# Altium schematic symbol library Resistors$.SchLib: 672 symbols (part 4 of 5)
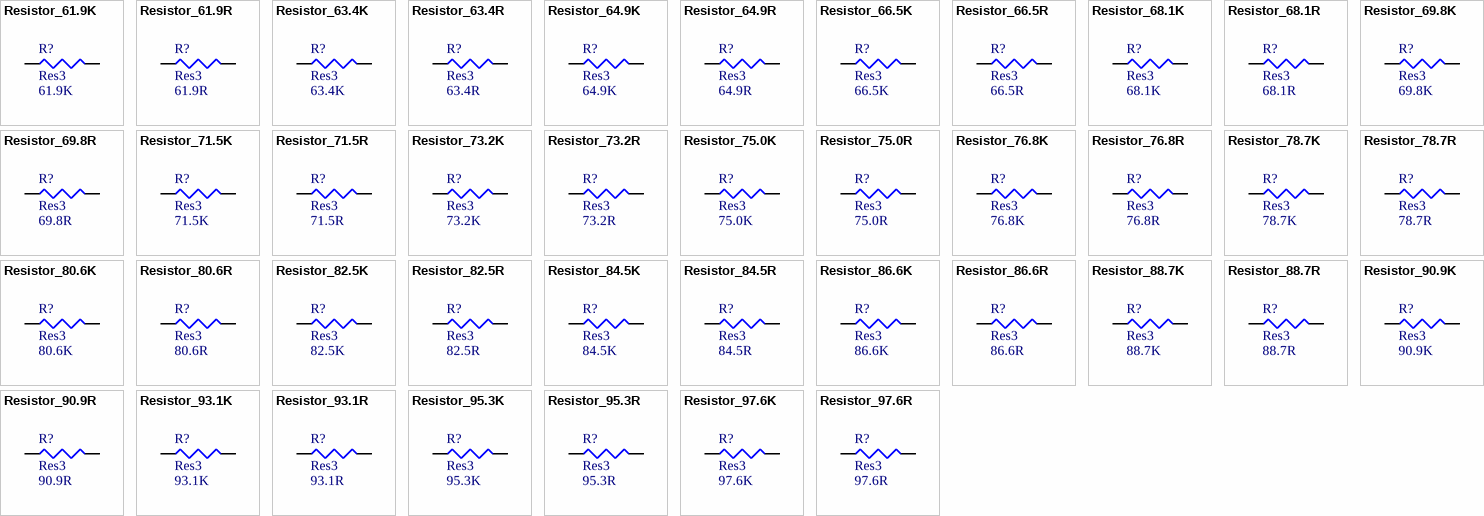
[diagram p19: symbols Resistor_61.9K to Resistor_97.6R]

## Resistor_69.8R
designator R?, comment Res3  value 69.8R
RES SMD 69.8R OHM 1% 1/8W 0805; MPN: CRCW080569R8FKEA; Name: Resistor_69.8R; PN: 541-69.8CCT-ND; URL: http://www.digikey.ca/product-detail/en/CRCW080569R8FKEA/541-69.8CCT-ND
footprint RESC2112X05M (Chip Resistor, 2-Leads, Body 2.05x1.25mm, IPC Low Density)
pins: 1, 2

## Resistor_71.5K
designator R?, comment Res3  value 71.5K
RES SMD 71.5K OHM 1% 1/8W 0805; MPN: CRCW080571K5FKEA; Name: Resistor_71.5K; PN: 541-7150KCCT-ND; URL: http://www.digikey.ca/product-detail/en/CRCW080571K5FKEA/541-7150KCCT-ND
footprint RESC2112X05M (Chip Resistor, 2-Leads, Body 2.05x1.25mm, IPC Low Density)
pins: 1, 2

## Resistor_71.5R
designator R?, comment Res3  value 71.5R
RES SMD 71.5R OHM 1% 1/8W 0805; MPN: CRCW080571R5FKEA; Name: Resistor_71.5R; PN: 541-71.5CCT-ND; URL: http://www.digikey.ca/product-detail/en/CRCW080571R5FKEA/541-71.5CCT-ND
footprint RESC2112X05M (Chip Resistor, 2-Leads, Body 2.05x1.25mm, IPC Low Density)
pins: 1, 2

## Resistor_73.2K
designator R?, comment Res3  value 73.2K
RES SMD 73.2K OHM 1% 1/8W 0805; MPN: CRCW080573K2FKEA; Name: Resistor_73.2K; PN: 541-7320KCCT-ND; URL: http://www.digikey.ca/product-detail/en/CRCW080573K2FKEA/541-7320KCCT-ND
footprint RESC2112X05M (Chip Resistor, 2-Leads, Body 2.05x1.25mm, IPC Low Density)
pins: 1, 2

## Resistor_73.2R
designator R?, comment Res3  value 73.2R
RES SMD 73.2R OHM 1% 1/8W 0805; MPN: CRCW080573R2FKEA; Name: Resistor_73.2R; PN: 541-73.2CCT-ND; URL: http://www.digikey.ca/product-detail/en/CRCW080573R2FKEA/541-73.2CCT-ND
footprint RESC2112X05M (Chip Resistor, 2-Leads, Body 2.05x1.25mm, IPC Low Density)
pins: 1, 2

## Resistor_75.0K
designator R?, comment Res3  value 75.0K
RES SMD 75.0K OHM 1% 1/8W 0805; MPN: CRCW080575K0FKEA; Name: Resistor_75.0K; PN: 541-7500KCCT-ND; URL: http://www.digikey.ca/product-detail/en/CRCW080575K0FKEA/541-7500KCCT-ND
footprint RESC2112X05M (Chip Resistor, 2-Leads, Body 2.05x1.25mm, IPC Low Density)
pins: 1, 2

## Resistor_75.0R
designator R?, comment Res3  value 75.0R
RES SMD 75.0R OHM 1% 1/8W 0805; MPN: CRCW080575R0FKEA; Name: Resistor_75.0R; PN: 541-75.0CCT-ND; URL: http://www.digikey.ca/product-detail/en/CRCW080575R0FKEA/541-75.0CCT-ND
footprint RESC2112X05M (Chip Resistor, 2-Leads, Body 2.05x1.25mm, IPC Low Density)
pins: 1, 2

## Resistor_76.8K
designator R?, comment Res3  value 76.8K
RES SMD 76.8K OHM 1% 1/8W 0805; MPN: CRCW080576K8FKEA; Name: Resistor_76.8K; PN: 541-7680KCCT-ND; URL: http://www.digikey.ca/product-detail/en/CRCW080576K8FKEA/541-7680KCCT-ND
footprint RESC2112X05M (Chip Resistor, 2-Leads, Body 2.05x1.25mm, IPC Low Density)
pins: 1, 2

## Resistor_76.8R
designator R?, comment Res3  value 76.8R
RES SMD 76.8R OHM 1% 1/8W 0805; MPN: CRCW080576R8FKEA; Name: Resistor_76.8R; PN: 541-76.8CCT-ND; URL: http://www.digikey.ca/product-detail/en/CRCW080576R8FKEA/541-76.8CCT-ND
footprint RESC2112X05M (Chip Resistor, 2-Leads, Body 2.05x1.25mm, IPC Low Density)
pins: 1, 2

## Resistor_78.7K
designator R?, comment Res3  value 78.7K
RES SMD 78.7K OHM 1% 1/8W 0805; MPN: CRCW080578K7FKEA; Name: Resistor_78.7K; PN: 541-7870KCCT-ND; URL: http://www.digikey.ca/product-detail/en/CRCW080578K7FKEA/541-7870KCCT-ND
footprint RESC2112X05M (Chip Resistor, 2-Leads, Body 2.05x1.25mm, IPC Low Density)
pins: 1, 2

## Resistor_78.7R
designator R?, comment Res3  value 78.7R
RES SMD 78.7R OHM 1% 1/8W 0805; MPN: CRCW080578R7FKEA; Name: Resistor_78.7R; PN: 541-78.7CCT-ND; URL: http://www.digikey.ca/product-detail/en/CRCW080578R7FKEA/541-78.7CCT-ND
footprint RESC2112X05M (Chip Resistor, 2-Leads, Body 2.05x1.25mm, IPC Low Density)
pins: 1, 2

## Resistor_80.6K
designator R?, comment Res3  value 80.6K
RES SMD 80.6K OHM 1% 1/8W 0805; MPN: CRCW080580K6FKEA; Name: Resistor_80.6K; PN: 541-8060KCCT-ND; URL: http://www.digikey.ca/product-detail/en/CRCW080580K6FKEA/541-8060KCCT-ND
footprint RESC2112X05M (Chip Resistor, 2-Leads, Body 2.05x1.25mm, IPC Low Density)
pins: 1, 2

## Resistor_80.6R
designator R?, comment Res3  value 80.6R
RES SMD 80.6R OHM 1% 1/8W 0805; MPN: CRCW080580R6FKEA; Name: Resistor_80.6R; PN: 541-80.6CCT-ND; URL: http://www.digikey.ca/product-detail/en/CRCW080580R6FKEA/541-80.6CCT-ND
footprint RESC2112X05M (Chip Resistor, 2-Leads, Body 2.05x1.25mm, IPC Low Density)
pins: 1, 2

## Resistor_82.5K
designator R?, comment Res3  value 82.5K
RES SMD 82.5K OHM 1% 1/8W 0805; MPN: CRCW080582K5FKEA; Name: Resistor_82.5K; PN: 541-8250KCCT-ND; URL: http://www.digikey.ca/product-detail/en/CRCW080582K5FKEA/541-8250KCCT-ND
footprint RESC2112X05M (Chip Resistor, 2-Leads, Body 2.05x1.25mm, IPC Low Density)
pins: 1, 2

## Resistor_82.5R
designator R?, comment Res3  value 82.5R
RES SMD 82.5R OHM 1% 1/8W 0805; MPN: CRCW080582R5FKEA; Name: Resistor_82.5R; PN: 541-82.5CCT-ND; URL: http://www.digikey.ca/product-detail/en/CRCW080582R5FKEA/541-82.5CCT-ND
footprint RESC2112X05M (Chip Resistor, 2-Leads, Body 2.05x1.25mm, IPC Low Density)
pins: 1, 2

## Resistor_84.5K
designator R?, comment Res3  value 84.5K
RES SMD 84.5K OHM 1% 1/8W 0805; MPN: CRCW080584K5FKEA; Name: Resistor_84.5K; PN: 541-8450KCCT-ND; URL: http://www.digikey.ca/product-detail/en/CRCW080584K5FKEA/541-8450KCCT-ND
footprint RESC2112X05M (Chip Resistor, 2-Leads, Body 2.05x1.25mm, IPC Low Density)
pins: 1, 2

## Resistor_84.5R
designator R?, comment Res3  value 84.5R
RES SMD 84.5R OHM 1% 1/8W 0805; MPN: CRCW080584R5FKEA; Name: Resistor_84.5R; PN: 541-84.5CCT-ND; URL: http://www.digikey.ca/product-detail/en/CRCW080584R5FKEA/541-84.5CCT-ND
footprint RESC2112X05M (Chip Resistor, 2-Leads, Body 2.05x1.25mm, IPC Low Density)
pins: 1, 2

## Resistor_86.6K
designator R?, comment Res3  value 86.6K
RES SMD 86.6K OHM 1% 1/8W 0805; MPN: CRCW080586K6FKEA; Name: Resistor_86.6K; PN: 541-8660KCCT-ND; URL: http://www.digikey.ca/product-detail/en/CRCW080586K6FKEA/541-8660KCCT-ND
footprint RESC2112X05M (Chip Resistor, 2-Leads, Body 2.05x1.25mm, IPC Low Density)
pins: 1, 2

## Resistor_86.6R
designator R?, comment Res3  value 86.6R
RES SMD 86.6R OHM 1% 1/8W 0805; MPN: CRCW080586R6FKEA; Name: Resistor_86.6R; PN: 541-86.6CCT-ND; URL: http://www.digikey.ca/product-detail/en/CRCW080586R6FKEA/541-86.6CCT-ND
footprint RESC2112X05M (Chip Resistor, 2-Leads, Body 2.05x1.25mm, IPC Low Density)
pins: 1, 2

## Resistor_88.7K
designator R?, comment Res3  value 88.7K
RES SMD 88.7K OHM 1% 1/8W 0805; MPN: CRCW080588K7FKEA; Name: Resistor_88.7K; PN: 541-8870KCCT-ND; URL: http://www.digikey.ca/product-detail/en/CRCW080588K7FKEA/541-8870KCCT-ND
footprint RESC2112X05M (Chip Resistor, 2-Leads, Body 2.05x1.25mm, IPC Low Density)
pins: 1, 2

## Resistor_88.7R
designator R?, comment Res3  value 88.7R
RES SMD 88.7R OHM 1% 1/8W 0805; MPN: CRCW080588R7FKEA; Name: Resistor_88.7R; PN: 541-88.7CCT-ND; URL: http://www.digikey.ca/product-detail/en/CRCW080588R7FKEA/541-88.7CCT-ND
footprint RESC2112X05M (Chip Resistor, 2-Leads, Body 2.05x1.25mm, IPC Low Density)
pins: 1, 2

## Resistor_90.9K
designator R?, comment Res3  value 90.9K
RES SMD 90.9K OHM 1% 1/8W 0805; MPN: CRCW080590K9FKEA; Name: Resistor_90.9K; PN: 541-9090KCCT-ND; URL: http://www.digikey.ca/product-detail/en/CRCW080590K9FKEA/541-9090KCCT-ND
footprint RESC2112X05M (Chip Resistor, 2-Leads, Body 2.05x1.25mm, IPC Low Density)
pins: 1, 2

## Resistor_90.9R
designator R?, comment Res3  value 90.9R
RES SMD 90.9R OHM 1% 1/8W 0805; MPN: CRCW080590R9FKEA; Name: Resistor_90.9R; PN: 541-90.9CCT-ND; URL: http://www.digikey.ca/product-detail/en/CRCW080590R9FKEA/541-90.9CCT-ND
footprint RESC2112X05M (Chip Resistor, 2-Leads, Body 2.05x1.25mm, IPC Low Density)
pins: 1, 2

## Resistor_93.1K
designator R?, comment Res3  value 93.1K
RES SMD 93.1K OHM 1% 1/8W 0805; MPN: CRCW080593K1FKEA; Name: Resistor_93.1K; PN: 541-9310KCCT-ND; URL: http://www.digikey.ca/product-detail/en/CRCW080593K1FKEA/541-9310KCCT-ND
footprint RESC2112X05M (Chip Resistor, 2-Leads, Body 2.05x1.25mm, IPC Low Density)
pins: 1, 2

## Resistor_93.1R
designator R?, comment Res3  value 93.1R
RES SMD 93.1R OHM 1% 1/8W 0805; MPN: CRCW080593R1FKEA; Name: Resistor_93.1R; PN: 541-93.1CCT-ND; URL: http://www.digikey.ca/product-detail/en/CRCW080593R1FKEA/541-93.1CCT-ND
footprint RESC2112X05M (Chip Resistor, 2-Leads, Body 2.05x1.25mm, IPC Low Density)
pins: 1, 2

## Resistor_95.3K
designator R?, comment Res3  value 95.3K
RES SMD 95.3K OHM 1% 1/8W 0805; MPN: CRCW080595K3FKEA; Name: Resistor_95.3K; PN: 541-9530KCCT-ND; URL: http://www.digikey.ca/product-detail/en/CRCW080595K3FKEA/541-9530KCCT-ND
footprint RESC2112X05M (Chip Resistor, 2-Leads, Body 2.05x1.25mm, IPC Low Density)
pins: 1, 2

## Resistor_95.3R
designator R?, comment Res3  value 95.3R
RES SMD 95.3R OHM 1% 1/8W 0805; MPN: CRCW080595R3FKEA; Name: Resistor_95.3R; PN: 541-95.3CCT-ND; URL: http://www.digikey.ca/product-detail/en/CRCW080595R3FKEA/541-95.3CCT-ND
footprint RESC2112X05M (Chip Resistor, 2-Leads, Body 2.05x1.25mm, IPC Low Density)
pins: 1, 2

## Resistor_97.6K
designator R?, comment Res3  value 97.6K
RES SMD 97.6K OHM 1% 1/8W 0805; MPN: CRCW080597K6FKEA; Name: Resistor_97.6K; PN: 541-9760KCCT-ND; URL: http://www.digikey.ca/product-detail/en/CRCW080597K6FKEA/541-9760KCCT-ND
footprint RESC2112X05M (Chip Resistor, 2-Leads, Body 2.05x1.25mm, IPC Low Density)
pins: 1, 2

## Resistor_97.6R
designator R?, comment Res3  value 97.6R
RES SMD 97.6R OHM 1% 1/8W 0805; MPN: CRCW080597R6FKEA; Name: Resistor_97.6R; PN: 541-97.6CCT-ND; URL: http://www.digikey.ca/product-detail/en/CRCW080597R6FKEA/541-97.6CCT-ND
footprint RESC2112X05M (Chip Resistor, 2-Leads, Body 2.05x1.25mm, IPC Low Density)
pins: 1, 2

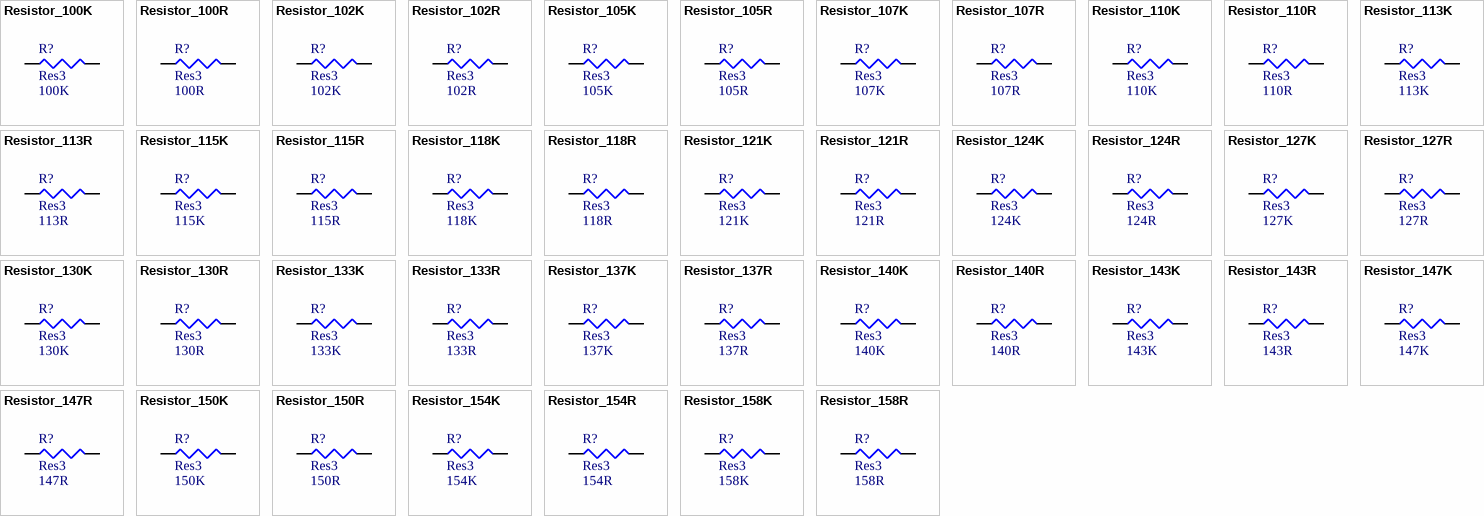
[diagram p12: symbols Resistor_100K to Resistor_158R]

## Resistor_100K
designator R?, comment Res3  value 100K
RES SMD 100K OHM 1% 1/8W 0805; MPN: CRCW0805100KFKEA; Name: Resistor_100K; PN: 541-1000KCCT-ND; URL: http://www.digikey.ca/product-detail/en/CRCW0805100KFKEA/541-1000KCCT-ND
footprint RESC2112X05M (Chip Resistor, 2-Leads, Body 2.05x1.25mm, IPC Low Density)
pins: 1, 2

## Resistor_100R
designator R?, comment Res3  value 100R
RES SMD 100R OHM 1% 1/8W 0805; MPN: CRCW0805100RFKEA; Name: Resistor_100R; PN: 541-100CCT-ND; URL: http://www.digikey.ca/product-detail/en/CRCW0805100RFKEA/541-100CCT-ND
footprint RESC2112X05M (Chip Resistor, 2-Leads, Body 2.05x1.25mm, IPC Low Density)
pins: 1, 2

## Resistor_102K
designator R?, comment Res3  value 102K
RES SMD 102K OHM 1% 1/8W 0805; MPN: CRCW0805102KFKEA; Name: Resistor_102K; PN: 541-1020KCCT-ND; URL: http://www.digikey.ca/product-detail/en/CRCW0805102KFKEA/541-1020KCCT-ND
footprint RESC2112X05M (Chip Resistor, 2-Leads, Body 2.05x1.25mm, IPC Low Density)
pins: 1, 2

## Resistor_102R
designator R?, comment Res3  value 102R
RES SMD 102R OHM 1% 1/8W 0805; MPN: CRCW0805102RFKEA; Name: Resistor_102R; PN: 541-102CCT-ND; URL: http://www.digikey.ca/product-detail/en/CRCW0805102RFKEA/541-102CCT-ND
footprint RESC2112X05M (Chip Resistor, 2-Leads, Body 2.05x1.25mm, IPC Low Density)
pins: 1, 2

## Resistor_105K
designator R?, comment Res3  value 105K
RES SMD 105K OHM 1% 1/8W 0805; MPN: CRCW0805105KFKEA; Name: Resistor_105K; PN: 541-1050KCCT-ND; URL: http://www.digikey.ca/product-detail/en/CRCW0805105KFKEA/541-1050KCCT-ND
footprint RESC2112X05M (Chip Resistor, 2-Leads, Body 2.05x1.25mm, IPC Low Density)
pins: 1, 2

## Resistor_105R
designator R?, comment Res3  value 105R
RES SMD 105R OHM 1% 1/8W 0805; MPN: CRCW0805105RFKEA; Name: Resistor_105R; PN: 541-105CCT-ND; URL: http://www.digikey.ca/product-detail/en/CRCW0805105RFKEA/541-105CCT-ND
footprint RESC2112X05M (Chip Resistor, 2-Leads, Body 2.05x1.25mm, IPC Low Density)
pins: 1, 2

## Resistor_107K
designator R?, comment Res3  value 107K
RES SMD 107K OHM 1% 1/8W 0805; MPN: CRCW0805107KFKEA; Name: Resistor_107K; PN: 541-1070KCCT-ND; URL: http://www.digikey.ca/product-detail/en/CRCW0805107KFKEA/541-1070KCCT-ND
footprint RESC2112X05M (Chip Resistor, 2-Leads, Body 2.05x1.25mm, IPC Low Density)
pins: 1, 2

## Resistor_107R
designator R?, comment Res3  value 107R
RES SMD 107R OHM 1% 1/8W 0805; MPN: CRCW0805107RFKEA; Name: Resistor_107R; PN: 541-107CCT-ND; URL: http://www.digikey.ca/product-detail/en/CRCW0805107RFKEA/541-107CCT-ND
footprint RESC2112X05M (Chip Resistor, 2-Leads, Body 2.05x1.25mm, IPC Low Density)
pins: 1, 2

## Resistor_110K
designator R?, comment Res3  value 110K
RES SMD 110K OHM 1% 1/8W 0805; MPN: CRCW0805110KFKEA; Name: Resistor_110K; PN: 541-1100KCCT-ND; URL: http://www.digikey.ca/product-detail/en/CRCW0805110KFKEA/541-1100KCCT-ND
footprint RESC2112X05M (Chip Resistor, 2-Leads, Body 2.05x1.25mm, IPC Low Density)
pins: 1, 2

## Resistor_110R
designator R?, comment Res3  value 110R
RES SMD 110R OHM 1% 1/8W 0805; MPN: CRCW0805110RFKEA; Name: Resistor_110R; PN: 541-110CCT-ND; URL: http://www.digikey.ca/product-detail/en/CRCW0805110RFKEA/541-110CCT-ND
footprint RESC2112X05M (Chip Resistor, 2-Leads, Body 2.05x1.25mm, IPC Low Density)
pins: 1, 2

## Resistor_113K
designator R?, comment Res3  value 113K
RES SMD 113K OHM 1% 1/8W 0805; MPN: CRCW0805113KFKEA; Name: Resistor_113K; PN: 541-1130KCCT-ND; URL: http://www.digikey.ca/product-detail/en/CRCW0805113KFKEA/541-1130KCCT-ND
footprint RESC2112X05M (Chip Resistor, 2-Leads, Body 2.05x1.25mm, IPC Low Density)
pins: 1, 2

## Resistor_113R
designator R?, comment Res3  value 113R
RES SMD 113R OHM 1% 1/8W 0805; MPN: CRCW0805113RFKEA; Name: Resistor_113R; PN: 541-113CCT-ND; URL: http://www.digikey.ca/product-detail/en/CRCW0805113RFKEA/541-113CCT-ND
footprint RESC2112X05M (Chip Resistor, 2-Leads, Body 2.05x1.25mm, IPC Low Density)
pins: 1, 2

## Resistor_115K
designator R?, comment Res3  value 115K
RES SMD 115K OHM 1% 1/8W 0805; MPN: CRCW0805115KFKEA; Name: Resistor_115K; PN: 541-1150KCCT-ND; URL: http://www.digikey.ca/product-detail/en/CRCW0805115KFKEA/541-1150KCCT-ND
footprint RESC2112X05M (Chip Resistor, 2-Leads, Body 2.05x1.25mm, IPC Low Density)
pins: 1, 2

## Resistor_115R
designator R?, comment Res3  value 115R
RES SMD 115R OHM 1% 1/8W 0805; MPN: CRCW0805115RFKEA; Name: Resistor_115R; PN: 541-115CCT-ND; URL: http://www.digikey.ca/product-detail/en/CRCW0805115RFKEA/541-115CCT-ND
footprint RESC2112X05M (Chip Resistor, 2-Leads, Body 2.05x1.25mm, IPC Low Density)
pins: 1, 2

## Resistor_118K
designator R?, comment Res3  value 118K
RES SMD 118K OHM 1% 1/8W 0805; MPN: CRCW0805118KFKEA; Name: Resistor_118K; PN: 541-1180KCCT-ND; URL: http://www.digikey.ca/product-detail/en/CRCW0805118KFKEA/541-1180KCCT-ND
footprint RESC2112X05M (Chip Resistor, 2-Leads, Body 2.05x1.25mm, IPC Low Density)
pins: 1, 2

## Resistor_118R
designator R?, comment Res3  value 118R
RES SMD 118R OHM 1% 1/8W 0805; MPN: CRCW0805118RFKEA; Name: Resistor_118R; PN: 541-118CCT-ND; URL: http://www.digikey.ca/product-detail/en/CRCW0805118RFKEA/541-118CCT-ND
footprint RESC2112X05M (Chip Resistor, 2-Leads, Body 2.05x1.25mm, IPC Low Density)
pins: 1, 2

## Resistor_121K
designator R?, comment Res3  value 121K
RES SMD 121K OHM 1% 1/8W 0805; MPN: CRCW0805121KFKEA; Name: Resistor_121K; PN: 541-1210KCCT-ND; URL: http://www.digikey.ca/product-detail/en/CRCW0805121KFKEA/541-1210KCCT-ND
footprint RESC2112X05M (Chip Resistor, 2-Leads, Body 2.05x1.25mm, IPC Low Density)
pins: 1, 2

## Resistor_121R
designator R?, comment Res3  value 121R
RES SMD 121R OHM 1% 1/8W 0805; MPN: CRCW0805121RFKEA; Name: Resistor_121R; PN: 541-121CCT-ND; URL: http://www.digikey.ca/product-detail/en/CRCW0805121RFKEA/541-121CCT-ND
footprint RESC2112X05M (Chip Resistor, 2-Leads, Body 2.05x1.25mm, IPC Low Density)
pins: 1, 2

## Resistor_124K
designator R?, comment Res3  value 124K
RES SMD 124K OHM 1% 1/8W 0805; MPN: CRCW0805124KFKEA; Name: Resistor_124K; PN: 541-1240KCCT-ND; URL: http://www.digikey.ca/product-detail/en/CRCW0805124KFKEA/541-1240KCCT-ND
footprint RESC2112X05M (Chip Resistor, 2-Leads, Body 2.05x1.25mm, IPC Low Density)
pins: 1, 2

## Resistor_124R
designator R?, comment Res3  value 124R
RES SMD 124R OHM 1% 1/8W 0805; MPN: CRCW0805124RFKEA; Name: Resistor_124R; PN: 541-124CCT-ND; URL: http://www.digikey.ca/product-detail/en/CRCW0805124RFKEA/541-124CCT-ND
footprint RESC2112X05M (Chip Resistor, 2-Leads, Body 2.05x1.25mm, IPC Low Density)
pins: 1, 2

## Resistor_127K
designator R?, comment Res3  value 127K
RES SMD 127K OHM 1% 1/8W 0805; MPN: CRCW0805127KFKEA; Name: Resistor_127K; PN: 541-1270KCCT-ND; URL: http://www.digikey.ca/product-detail/en/CRCW0805127KFKEA/541-1270KCCT-ND
footprint RESC2112X05M (Chip Resistor, 2-Leads, Body 2.05x1.25mm, IPC Low Density)
pins: 1, 2

## Resistor_127R
designator R?, comment Res3  value 127R
RES SMD 127R OHM 1% 1/8W 0805; MPN: CRCW0805127RFKEA; Name: Resistor_127R; PN: 541-127CCT-ND; URL: http://www.digikey.ca/product-detail/en/CRCW0805127RFKEA/541-127CCT-ND
footprint RESC2112X05M (Chip Resistor, 2-Leads, Body 2.05x1.25mm, IPC Low Density)
pins: 1, 2

## Resistor_130K
designator R?, comment Res3  value 130K
RES SMD 130K OHM 1% 1/8W 0805; MPN: CRCW0805130KFKEA; Name: Resistor_130K; PN: 541-1300KCCT-ND; URL: http://www.digikey.ca/product-detail/en/CRCW0805130KFKEA/541-1300KCCT-ND
footprint RESC2112X05M (Chip Resistor, 2-Leads, Body 2.05x1.25mm, IPC Low Density)
pins: 1, 2

## Resistor_130R
designator R?, comment Res3  value 130R
RES SMD 130R OHM 1% 1/8W 0805; MPN: CRCW0805130RFKEA; Name: Resistor_130R; PN: 541-130CCT-ND; URL: http://www.digikey.ca/product-detail/en/CRCW0805130RFKEA/541-130CCT-ND
footprint RESC2112X05M (Chip Resistor, 2-Leads, Body 2.05x1.25mm, IPC Low Density)
pins: 1, 2

## Resistor_133K
designator R?, comment Res3  value 133K
RES SMD 133K OHM 1% 1/8W 0805; MPN: CRCW0805133KFKEA; Name: Resistor_133K; PN: 541-1330KCCT-ND; URL: http://www.digikey.ca/product-detail/en/CRCW0805133KFKEA/541-1330KCCT-ND
footprint RESC2112X05M (Chip Resistor, 2-Leads, Body 2.05x1.25mm, IPC Low Density)
pins: 1, 2

## Resistor_133R
designator R?, comment Res3  value 133R
RES SMD 133R OHM 1% 1/8W 0805; MPN: CRCW0805133RFKEA; Name: Resistor_133R; PN: 541-133CCT-ND; URL: http://www.digikey.ca/product-detail/en/CRCW0805133RFKEA/541-133CCT-ND
footprint RESC2112X05M (Chip Resistor, 2-Leads, Body 2.05x1.25mm, IPC Low Density)
pins: 1, 2

## Resistor_137K
designator R?, comment Res3  value 137K
RES SMD 137K OHM 1% 1/8W 0805; MPN: CRCW0805137KFKEA; Name: Resistor_137K; PN: 541-1370KCCT-ND; URL: http://www.digikey.ca/product-detail/en/CRCW0805137KFKEA/541-1370KCCT-ND
footprint RESC2112X05M (Chip Resistor, 2-Leads, Body 2.05x1.25mm, IPC Low Density)
pins: 1, 2

## Resistor_137R
designator R?, comment Res3  value 137R
RES SMD 137R OHM 1% 1/8W 0805; MPN: CRCW0805137RFKEA; Name: Resistor_137R; PN: 541-137CCT-ND; URL: http://www.digikey.ca/product-detail/en/CRCW0805137RFKEA/541-137CCT-ND
footprint RESC2112X05M (Chip Resistor, 2-Leads, Body 2.05x1.25mm, IPC Low Density)
pins: 1, 2

## Resistor_140K
designator R?, comment Res3  value 140K
RES SMD 140K OHM 1% 1/8W 0805; MPN: CRCW0805140KFKEA; Name: Resistor_140K; PN: 541-1400KCCT-ND; URL: http://www.digikey.ca/product-detail/en/CRCW0805140KFKEA/541-1400KCCT-ND
footprint RESC2112X05M (Chip Resistor, 2-Leads, Body 2.05x1.25mm, IPC Low Density)
pins: 1, 2

## Resistor_140R
designator R?, comment Res3  value 140R
RES SMD 140R OHM 1% 1/8W 0805; MPN: CRCW0805140RFKEA; Name: Resistor_140R; PN: 541-140CCT-ND; URL: http://www.digikey.ca/product-detail/en/CRCW0805140RFKEA/541-140CCT-ND
footprint RESC2112X05M (Chip Resistor, 2-Leads, Body 2.05x1.25mm, IPC Low Density)
pins: 1, 2

## Resistor_143K
designator R?, comment Res3  value 143K
RES SMD 143K OHM 1% 1/8W 0805; MPN: CRCW0805143KFKEA; Name: Resistor_143K; PN: 541-1430KCCT-ND; URL: http://www.digikey.ca/product-detail/en/CRCW0805143KFKEA/541-1430KCCT-ND
footprint RESC2112X05M (Chip Resistor, 2-Leads, Body 2.05x1.25mm, IPC Low Density)
pins: 1, 2

## Resistor_143R
designator R?, comment Res3  value 143R
RES SMD 143R OHM 1% 1/8W 0805; MPN: CRCW0805143RFKEA; Name: Resistor_143R; PN: 541-143CCT-ND; URL: http://www.digikey.ca/product-detail/en/CRCW0805143RFKEA/541-143CCT-ND
footprint RESC2112X05M (Chip Resistor, 2-Leads, Body 2.05x1.25mm, IPC Low Density)
pins: 1, 2

## Resistor_147K
designator R?, comment Res3  value 147K
RES SMD 147K OHM 1% 1/8W 0805; MPN: CRCW0805147KFKEA; Name: Resistor_147K; PN: 541-1470KCCT-ND; URL: http://www.digikey.ca/product-detail/en/CRCW0805147KFKEA/541-1470KCCT-ND
footprint RESC2112X05M (Chip Resistor, 2-Leads, Body 2.05x1.25mm, IPC Low Density)
pins: 1, 2

## Resistor_147R
designator R?, comment Res3  value 147R
RES SMD 147R OHM 1% 1/8W 0805; MPN: CRCW0805147RFKEA; Name: Resistor_147R; PN: 541-147CCT-ND; URL: http://www.digikey.ca/product-detail/en/CRCW0805147RFKEA/541-147CCT-ND
footprint RESC2112X05M (Chip Resistor, 2-Leads, Body 2.05x1.25mm, IPC Low Density)
pins: 1, 2

## Resistor_150K
designator R?, comment Res3  value 150K
RES SMD 150K OHM 1% 1/8W 0805; MPN: CRCW0805150KFKEA; Name: Resistor_150K; PN: 541-1500KCCT-ND; URL: http://www.digikey.ca/product-detail/en/CRCW0805150KFKEA/541-1500KCCT-ND
footprint RESC2112X05M (Chip Resistor, 2-Leads, Body 2.05x1.25mm, IPC Low Density)
pins: 1, 2

## Resistor_150R
designator R?, comment Res3  value 150R
RES SMD 150R OHM 1% 1/8W 0805; MPN: CRCW0805150RFKEA; Name: Resistor_150R; PN: 541-150CCT-ND; URL: http://www.digikey.ca/product-detail/en/CRCW0805150RFKEA/541-150CCT-ND
footprint RESC2112X05M (Chip Resistor, 2-Leads, Body 2.05x1.25mm, IPC Low Density)
pins: 1, 2

## Resistor_154K
designator R?, comment Res3  value 154K
RES SMD 154K OHM 1% 1/8W 0805; MPN: CRCW0805154KFKEA; Name: Resistor_154K; PN: 541-1540KCCT-ND; URL: http://www.digikey.ca/product-detail/en/CRCW0805154KFKEA/541-1540KCCT-ND
footprint RESC2112X05M (Chip Resistor, 2-Leads, Body 2.05x1.25mm, IPC Low Density)
pins: 1, 2

## Resistor_154R
designator R?, comment Res3  value 154R
RES SMD 154R OHM 1% 1/8W 0805; MPN: CRCW0805154RFKEA; Name: Resistor_154R; PN: 541-154CCT-ND; URL: http://www.digikey.ca/product-detail/en/CRCW0805154RFKEA/541-154CCT-ND
footprint RESC2112X05M (Chip Resistor, 2-Leads, Body 2.05x1.25mm, IPC Low Density)
pins: 1, 2

## Resistor_158K
designator R?, comment Res3  value 158K
RES SMD 158K OHM 1% 1/8W 0805; MPN: CRCW0805158KFKEA; Name: Resistor_158K; PN: 541-1580KCCT-ND; URL: http://www.digikey.ca/product-detail/en/CRCW0805158KFKEA/541-1580KCCT-ND
footprint RESC2112X05M (Chip Resistor, 2-Leads, Body 2.05x1.25mm, IPC Low Density)
pins: 1, 2

## Resistor_158R
designator R?, comment Res3  value 158R
RES SMD 158R OHM 1% 1/8W 0805; MPN: CRCW0805158RFKEA; Name: Resistor_158R; PN: 541-158CCT-ND; URL: http://www.digikey.ca/product-detail/en/CRCW0805158RFKEA/541-158CCT-ND
footprint RESC2112X05M (Chip Resistor, 2-Leads, Body 2.05x1.25mm, IPC Low Density)
pins: 1, 2

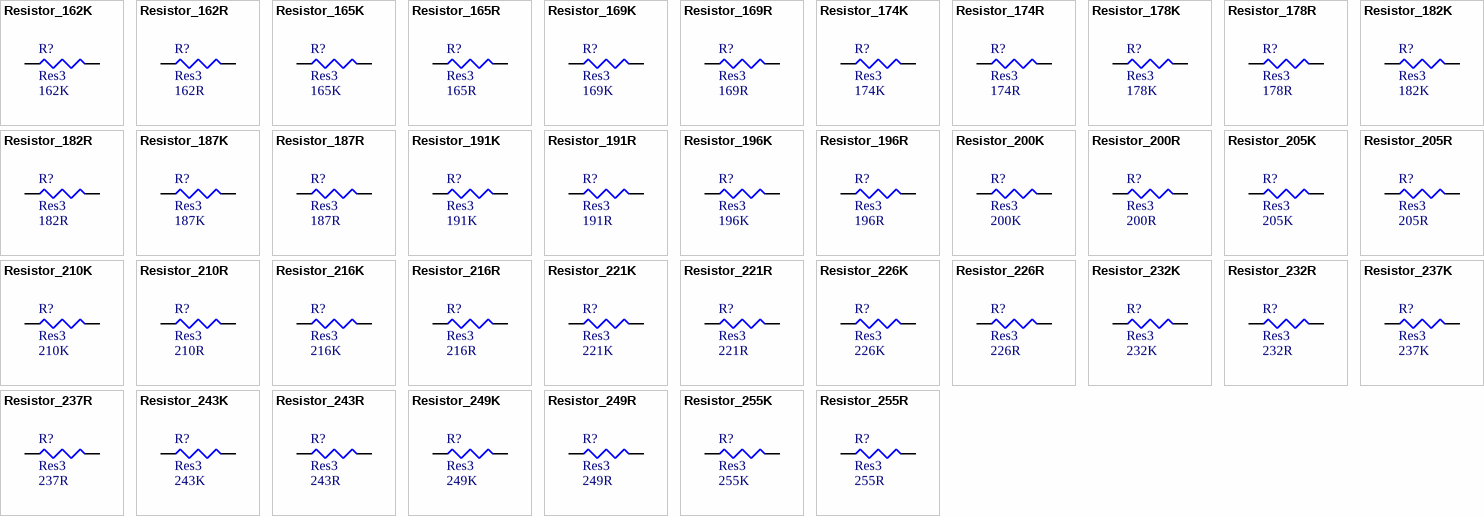
[diagram p13: symbols Resistor_162K to Resistor_255R]

## Resistor_162K
designator R?, comment Res3  value 162K
RES SMD 162K OHM 1% 1/8W 0805; MPN: CRCW0805162KFKEA; Name: Resistor_162K; PN: 541-1620KCCT-ND; URL: http://www.digikey.ca/product-detail/en/CRCW0805162KFKEA/541-1620KCCT-ND
footprint RESC2112X05M (Chip Resistor, 2-Leads, Body 2.05x1.25mm, IPC Low Density)
pins: 1, 2

## Resistor_162R
designator R?, comment Res3  value 162R
RES SMD 162R OHM 1% 1/8W 0805; MPN: CRCW0805162RFKEA; Name: Resistor_162R; PN: 541-162CCT-ND; URL: http://www.digikey.ca/product-detail/en/CRCW0805162RFKEA/541-162CCT-ND
footprint RESC2112X05M (Chip Resistor, 2-Leads, Body 2.05x1.25mm, IPC Low Density)
pins: 1, 2

## Resistor_165K
designator R?, comment Res3  value 165K
RES SMD 165K OHM 1% 1/8W 0805; MPN: CRCW0805165KFKEA; Name: Resistor_165K; PN: 541-1650KCCT-ND; URL: http://www.digikey.ca/product-detail/en/CRCW0805165KFKEA/541-1650KCCT-ND
footprint RESC2112X05M (Chip Resistor, 2-Leads, Body 2.05x1.25mm, IPC Low Density)
pins: 1, 2

## Resistor_165R
designator R?, comment Res3  value 165R
RES SMD 165R OHM 1% 1/8W 0805; MPN: CRCW0805165RFKEA; Name: Resistor_165R; PN: 541-165CCT-ND; URL: http://www.digikey.ca/product-detail/en/CRCW0805165RFKEA/541-165CCT-ND
footprint RESC2112X05M (Chip Resistor, 2-Leads, Body 2.05x1.25mm, IPC Low Density)
pins: 1, 2

## Resistor_169K
designator R?, comment Res3  value 169K
RES SMD 169K OHM 1% 1/8W 0805; MPN: CRCW0805169KFKEA; Name: Resistor_169K; PN: 541-1690KCCT-ND; URL: http://www.digikey.ca/product-detail/en/CRCW0805169KFKEA/541-1690KCCT-ND
footprint RESC2112X05M (Chip Resistor, 2-Leads, Body 2.05x1.25mm, IPC Low Density)
pins: 1, 2

## Resistor_169R
designator R?, comment Res3  value 169R
RES SMD 169R OHM 1% 1/8W 0805; MPN: CRCW0805169RFKEA; Name: Resistor_169R; PN: 541-169CCT-ND; URL: http://www.digikey.ca/product-detail/en/CRCW0805169RFKEA/541-169CCT-ND
footprint RESC2112X05M (Chip Resistor, 2-Leads, Body 2.05x1.25mm, IPC Low Density)
pins: 1, 2

## Resistor_174K
designator R?, comment Res3  value 174K
RES SMD 174K OHM 1% 1/8W 0805; MPN: CRCW0805174KFKEA; Name: Resistor_174K; PN: 541-1740KCCT-ND; URL: http://www.digikey.ca/product-detail/en/CRCW0805174KFKEA/541-1740KCCT-ND
footprint RESC2112X05M (Chip Resistor, 2-Leads, Body 2.05x1.25mm, IPC Low Density)
pins: 1, 2

## Resistor_174R
designator R?, comment Res3  value 174R
RES SMD 174R OHM 1% 1/8W 0805; MPN: CRCW0805174RFKEA; Name: Resistor_174R; PN: 541-174CCT-ND; URL: http://www.digikey.ca/product-detail/en/CRCW0805174RFKEA/541-174CCT-ND
footprint RESC2112X05M (Chip Resistor, 2-Leads, Body 2.05x1.25mm, IPC Low Density)
pins: 1, 2

## Resistor_178K
designator R?, comment Res3  value 178K
RES SMD 178K OHM 1% 1/8W 0805; MPN: CRCW0805178KFKEA; Name: Resistor_178K; PN: 541-1780KCCT-ND; URL: http://www.digikey.ca/product-detail/en/CRCW0805178KFKEA/541-1780KCCT-ND
footprint RESC2112X05M (Chip Resistor, 2-Leads, Body 2.05x1.25mm, IPC Low Density)
pins: 1, 2

## Resistor_178R
designator R?, comment Res3  value 178R
RES SMD 178R OHM 1% 1/8W 0805; MPN: CRCW0805178RFKEA; Name: Resistor_178R; PN: 541-178CCT-ND; URL: http://www.digikey.ca/product-detail/en/CRCW0805178RFKEA/541-178CCT-ND
footprint RESC2112X05M (Chip Resistor, 2-Leads, Body 2.05x1.25mm, IPC Low Density)
pins: 1, 2

## Resistor_182K
designator R?, comment Res3  value 182K
RES SMD 182K OHM 1% 1/8W 0805; MPN: CRCW0805182KFKEA; Name: Resistor_182K; PN: 541-1820KCCT-ND; URL: http://www.digikey.ca/product-detail/en/CRCW0805182KFKEA/541-1820KCCT-ND
footprint RESC2112X05M (Chip Resistor, 2-Leads, Body 2.05x1.25mm, IPC Low Density)
pins: 1, 2

## Resistor_182R
designator R?, comment Res3  value 182R
RES SMD 182R OHM 1% 1/8W 0805; MPN: CRCW0805182RFKEA; Name: Resistor_182R; PN: 541-182CCT-ND; URL: http://www.digikey.ca/product-detail/en/CRCW0805182RFKEA/541-182CCT-ND
footprint RESC2112X05M (Chip Resistor, 2-Leads, Body 2.05x1.25mm, IPC Low Density)
pins: 1, 2

## Resistor_187K
designator R?, comment Res3  value 187K
RES SMD 187K OHM 1% 1/8W 0805; MPN: CRCW0805187KFKEA; Name: Resistor_187K; PN: 541-1870KCCT-ND; URL: http://www.digikey.ca/product-detail/en/CRCW0805187KFKEA/541-1870KCCT-ND
footprint RESC2112X05M (Chip Resistor, 2-Leads, Body 2.05x1.25mm, IPC Low Density)
pins: 1, 2

## Resistor_187R
designator R?, comment Res3  value 187R
RES SMD 187R OHM 1% 1/8W 0805; MPN: CRCW0805187RFKEA; Name: Resistor_187R; PN: 541-187CCT-ND; URL: http://www.digikey.ca/product-detail/en/CRCW0805187RFKEA/541-187CCT-ND
footprint RESC2112X05M (Chip Resistor, 2-Leads, Body 2.05x1.25mm, IPC Low Density)
pins: 1, 2

## Resistor_191K
designator R?, comment Res3  value 191K
RES SMD 191K OHM 1% 1/8W 0805; MPN: CRCW0805191KFKEA; Name: Resistor_191K; PN: 541-1910KCCT-ND; URL: http://www.digikey.ca/product-detail/en/CRCW0805191KFKEA/541-1910KCCT-ND
footprint RESC2112X05M (Chip Resistor, 2-Leads, Body 2.05x1.25mm, IPC Low Density)
pins: 1, 2

## Resistor_191R
designator R?, comment Res3  value 191R
RES SMD 191R OHM 1% 1/8W 0805; MPN: CRCW0805191RFKEA; Name: Resistor_191R; PN: 541-191CCT-ND; URL: http://www.digikey.ca/product-detail/en/CRCW0805191RFKEA/541-191CCT-ND
footprint RESC2112X05M (Chip Resistor, 2-Leads, Body 2.05x1.25mm, IPC Low Density)
pins: 1, 2

## Resistor_196K
designator R?, comment Res3  value 196K
RES SMD 196K OHM 1% 1/8W 0805; MPN: CRCW0805196KFKEA; Name: Resistor_196K; PN: 541-1960KCCT-ND; URL: http://www.digikey.ca/product-detail/en/CRCW0805196KFKEA/541-1960KCCT-ND
footprint RESC2112X05M (Chip Resistor, 2-Leads, Body 2.05x1.25mm, IPC Low Density)
pins: 1, 2

## Resistor_196R
designator R?, comment Res3  value 196R
RES SMD 196R OHM 1% 1/8W 0805; MPN: CRCW0805196RFKEA; Name: Resistor_196R; PN: 541-196CCT-ND; URL: http://www.digikey.ca/product-detail/en/CRCW0805196RFKEA/541-196CCT-ND
footprint RESC2112X05M (Chip Resistor, 2-Leads, Body 2.05x1.25mm, IPC Low Density)
pins: 1, 2

## Resistor_200K
designator R?, comment Res3  value 200K
RES SMD 200K OHM 1% 1/8W 0805; MPN: CRCW0805200KFKEA; Name: Resistor_200K; PN: 541-2000KCCT-ND; URL: http://www.digikey.ca/product-detail/en/CRCW0805200KFKEA/541-2000KCCT-ND
footprint RESC2112X05M (Chip Resistor, 2-Leads, Body 2.05x1.25mm, IPC Low Density)
pins: 1, 2

## Resistor_200R
designator R?, comment Res3  value 200R
RES SMD 200R OHM 1% 1/8W 0805; MPN: CRCW0805200RFKEA; Name: Resistor_200R; PN: 541-200CCT-ND; URL: http://www.digikey.ca/product-detail/en/CRCW0805200RFKEA/541-200CCT-ND
footprint RESC2112X05M (Chip Resistor, 2-Leads, Body 2.05x1.25mm, IPC Low Density)
pins: 1, 2

## Resistor_205K
designator R?, comment Res3  value 205K
RES SMD 205K OHM 1% 1/8W 0805; MPN: CRCW0805205KFKEA; Name: Resistor_205K; PN: 541-2050KCCT-ND; URL: http://www.digikey.ca/product-detail/en/CRCW0805205KFKEA/541-2050KCCT-ND
footprint RESC2112X05M (Chip Resistor, 2-Leads, Body 2.05x1.25mm, IPC Low Density)
pins: 1, 2

## Resistor_205R
designator R?, comment Res3  value 205R
RES SMD 205R OHM 1% 1/8W 0805; MPN: CRCW0805205RFKEA; Name: Resistor_205R; PN: 541-205CCT-ND; URL: http://www.digikey.ca/product-detail/en/CRCW0805205RFKEA/541-205CCT-ND
footprint RESC2112X05M (Chip Resistor, 2-Leads, Body 2.05x1.25mm, IPC Low Density)
pins: 1, 2

## Resistor_210K
designator R?, comment Res3  value 210K
RES SMD 210K OHM 1% 1/8W 0805; MPN: CRCW0805210KFKEA; Name: Resistor_210K; PN: 541-2100KCCT-ND; URL: http://www.digikey.ca/product-detail/en/CRCW0805210KFKEA/541-2100KCCT-ND
footprint RESC2112X05M (Chip Resistor, 2-Leads, Body 2.05x1.25mm, IPC Low Density)
pins: 1, 2

## Resistor_210R
designator R?, comment Res3  value 210R
RES SMD 210R OHM 1% 1/8W 0805; MPN: CRCW0805210RFKEA; Name: Resistor_210R; PN: 541-210CCT-ND; URL: http://www.digikey.ca/product-detail/en/CRCW0805210RFKEA/541-210CCT-ND
footprint RESC2112X05M (Chip Resistor, 2-Leads, Body 2.05x1.25mm, IPC Low Density)
pins: 1, 2

## Resistor_216K
designator R?, comment Res3  value 216K
RES SMD 216K OHM 1% 1/8W 0805; MPN: CRCW0805216KFKEA; Name: Resistor_216K; PN: 541-2160KCCT-ND; URL: http://www.digikey.ca/product-detail/en/CRCW0805216KFKEA/541-2160KCCT-ND
footprint RESC2112X05M (Chip Resistor, 2-Leads, Body 2.05x1.25mm, IPC Low Density)
pins: 1, 2

## Resistor_216R
designator R?, comment Res3  value 216R
RES SMD 216R OHM 1% 1/8W 0805; MPN: CRCW0805216RFKEA; Name: Resistor_216R; PN: 541-216CCT-ND; URL: http://www.digikey.ca/product-detail/en/CRCW0805216RFKEA/541-216CCT-ND
footprint RESC2112X05M (Chip Resistor, 2-Leads, Body 2.05x1.25mm, IPC Low Density)
pins: 1, 2

## Resistor_221K
designator R?, comment Res3  value 221K
RES SMD 221K OHM 1% 1/8W 0805; MPN: CRCW0805221KFKEA; Name: Resistor_221K; PN: 541-2210KCCT-ND; URL: http://www.digikey.ca/product-detail/en/CRCW0805221KFKEA/541-2210KCCT-ND
footprint RESC2112X05M (Chip Resistor, 2-Leads, Body 2.05x1.25mm, IPC Low Density)
pins: 1, 2

## Resistor_221R
designator R?, comment Res3  value 221R
RES SMD 221R OHM 1% 1/8W 0805; MPN: CRCW0805221RFKEA; Name: Resistor_221R; PN: 541-221CCT-ND; URL: http://www.digikey.ca/product-detail/en/CRCW0805221RFKEA/541-221CCT-ND
footprint RESC2112X05M (Chip Resistor, 2-Leads, Body 2.05x1.25mm, IPC Low Density)
pins: 1, 2

## Resistor_226K
designator R?, comment Res3  value 226K
RES SMD 226K OHM 1% 1/8W 0805; MPN: CRCW0805226KFKEA; Name: Resistor_226K; PN: 541-2260KCCT-ND; URL: http://www.digikey.ca/product-detail/en/CRCW0805226KFKEA/541-2260KCCT-ND
footprint RESC2112X05M (Chip Resistor, 2-Leads, Body 2.05x1.25mm, IPC Low Density)
pins: 1, 2

## Resistor_226R
designator R?, comment Res3  value 226R
RES SMD 226R OHM 1% 1/8W 0805; MPN: CRCW0805226RFKEA; Name: Resistor_226R; PN: 541-226CCT-ND; URL: http://www.digikey.ca/product-detail/en/CRCW0805226RFKEA/541-226CCT-ND
footprint RESC2112X05M (Chip Resistor, 2-Leads, Body 2.05x1.25mm, IPC Low Density)
pins: 1, 2

## Resistor_232K
designator R?, comment Res3  value 232K
RES SMD 232K OHM 1% 1/8W 0805; MPN: CRCW0805232KFKEA; Name: Resistor_232K; PN: 541-2320KCCT-ND; URL: http://www.digikey.ca/product-detail/en/CRCW0805232KFKEA/541-2320KCCT-ND
footprint RESC2112X05M (Chip Resistor, 2-Leads, Body 2.05x1.25mm, IPC Low Density)
pins: 1, 2

## Resistor_232R
designator R?, comment Res3  value 232R
RES SMD 232R OHM 1% 1/8W 0805; MPN: CRCW0805232RFKEA; Name: Resistor_232R; PN: 541-232CCT-ND; URL: http://www.digikey.ca/product-detail/en/CRCW0805232RFKEA/541-232CCT-ND
footprint RESC2112X05M (Chip Resistor, 2-Leads, Body 2.05x1.25mm, IPC Low Density)
pins: 1, 2

## Resistor_237K
designator R?, comment Res3  value 237K
RES SMD 237K OHM 1% 1/8W 0805; MPN: CRCW0805237KFKEA; Name: Resistor_237K; PN: 541-2370KCCT-ND; URL: http://www.digikey.ca/product-detail/en/CRCW0805237KFKEA/541-2370KCCT-ND
footprint RESC2112X05M (Chip Resistor, 2-Leads, Body 2.05x1.25mm, IPC Low Density)
pins: 1, 2

## Resistor_237R
designator R?, comment Res3  value 237R
RES SMD 237R OHM 1% 1/8W 0805; MPN: CRCW0805237RFKEA; Name: Resistor_237R; PN: 541-237CCT-ND; URL: http://www.digikey.ca/product-detail/en/CRCW0805237RFKEA/541-237CCT-ND
footprint RESC2112X05M (Chip Resistor, 2-Leads, Body 2.05x1.25mm, IPC Low Density)
pins: 1, 2

## Resistor_243K
designator R?, comment Res3  value 243K
RES SMD 243K OHM 1% 1/8W 0805; MPN: CRCW0805243KFKEA; Name: Resistor_243K; PN: 541-2430KCCT-ND; URL: http://www.digikey.ca/product-detail/en/CRCW0805243KFKEA/541-2430KCCT-ND
footprint RESC2112X05M (Chip Resistor, 2-Leads, Body 2.05x1.25mm, IPC Low Density)
pins: 1, 2

## Resistor_243R
designator R?, comment Res3  value 243R
RES SMD 243R OHM 1% 1/8W 0805; MPN: CRCW0805243RFKEA; Name: Resistor_243R; PN: 541-243CCT-ND; URL: http://www.digikey.ca/product-detail/en/CRCW0805243RFKEA/541-243CCT-ND
footprint RESC2112X05M (Chip Resistor, 2-Leads, Body 2.05x1.25mm, IPC Low Density)
pins: 1, 2

## Resistor_249K
designator R?, comment Res3  value 249K
RES SMD 249K OHM 1% 1/8W 0805; MPN: CRCW0805249KFKEA; Name: Resistor_249K; PN: 541-2490KCCT-ND; URL: http://www.digikey.ca/product-detail/en/CRCW0805249KFKEA/541-2490KCCT-ND
footprint RESC2112X05M (Chip Resistor, 2-Leads, Body 2.05x1.25mm, IPC Low Density)
pins: 1, 2

## Resistor_249R
designator R?, comment Res3  value 249R
RES SMD 249R OHM 1% 1/8W 0805; MPN: CRCW0805249RFKEA; Name: Resistor_249R; PN: 541-249CCT-ND; URL: http://www.digikey.ca/product-detail/en/CRCW0805249RFKEA/541-249CCT-ND
footprint RESC2112X05M (Chip Resistor, 2-Leads, Body 2.05x1.25mm, IPC Low Density)
pins: 1, 2

## Resistor_255K
designator R?, comment Res3  value 255K
RES SMD 255K OHM 1% 1/8W 0805; MPN: CRCW0805255KFKEA; Name: Resistor_255K; PN: 541-2550KCCT-ND; URL: http://www.digikey.ca/product-detail/en/CRCW0805255KFKEA/541-2550KCCT-ND
footprint RESC2112X05M (Chip Resistor, 2-Leads, Body 2.05x1.25mm, IPC Low Density)
pins: 1, 2

## Resistor_255R
designator R?, comment Res3  value 255R
RES SMD 255R OHM 1% 1/8W 0805; MPN: CRCW0805255RFKEA; Name: Resistor_255R; PN: 541-255CCT-ND; URL: http://www.digikey.ca/product-detail/en/CRCW0805255RFKEA/541-255CCT-ND
footprint RESC2112X05M (Chip Resistor, 2-Leads, Body 2.05x1.25mm, IPC Low Density)
pins: 1, 2

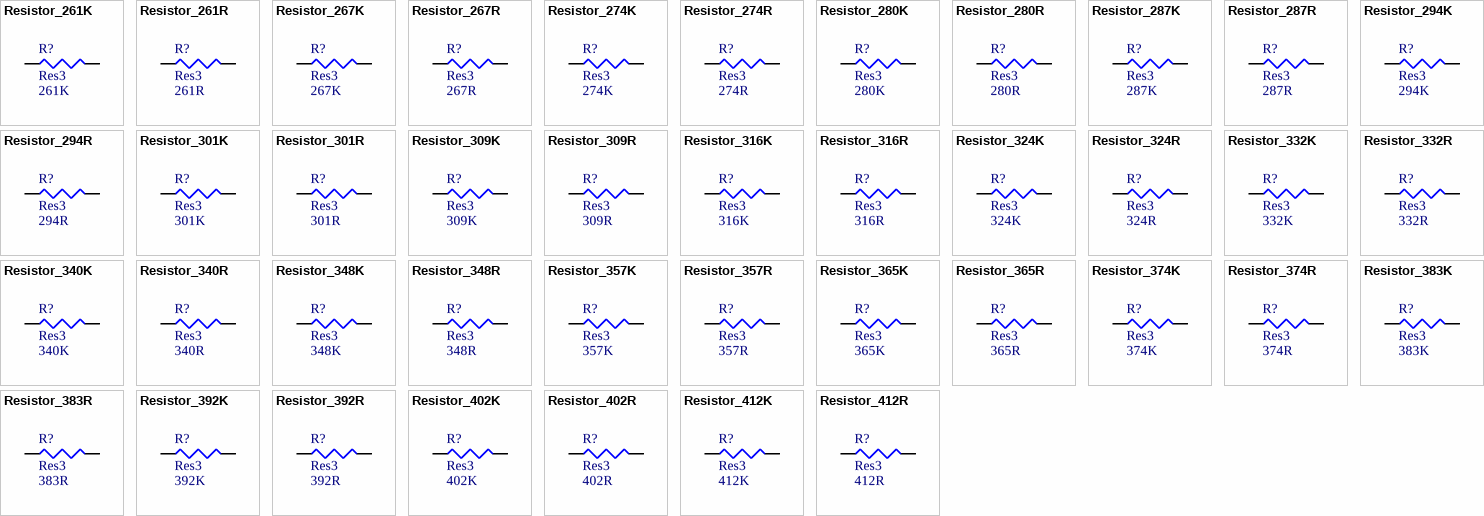
[diagram p14: symbols Resistor_261K to Resistor_412R]

## Resistor_261K
designator R?, comment Res3  value 261K
RES SMD 261K OHM 1% 1/8W 0805; MPN: CRCW0805261KFKEA; Name: Resistor_261K; PN: 541-2610KCCT-ND; URL: http://www.digikey.ca/product-detail/en/CRCW0805261KFKEA/541-2610KCCT-ND
footprint RESC2112X05M (Chip Resistor, 2-Leads, Body 2.05x1.25mm, IPC Low Density)
pins: 1, 2

## Resistor_261R
designator R?, comment Res3  value 261R
RES SMD 261R OHM 1% 1/8W 0805; MPN: CRCW0805261RFKEA; Name: Resistor_261R; PN: 541-261CCT-ND; URL: http://www.digikey.ca/product-detail/en/CRCW0805261RFKEA/541-261CCT-ND
footprint RESC2112X05M (Chip Resistor, 2-Leads, Body 2.05x1.25mm, IPC Low Density)
pins: 1, 2

## Resistor_267K
designator R?, comment Res3  value 267K
RES SMD 267K OHM 1% 1/8W 0805; MPN: CRCW0805267KFKEA; Name: Resistor_267K; PN: 541-2670KCCT-ND; URL: http://www.digikey.ca/product-detail/en/CRCW0805267KFKEA/541-2670KCCT-ND
footprint RESC2112X05M (Chip Resistor, 2-Leads, Body 2.05x1.25mm, IPC Low Density)
pins: 1, 2

## Resistor_267R
designator R?, comment Res3  value 267R
RES SMD 267R OHM 1% 1/8W 0805; MPN: CRCW0805267RFKEA; Name: Resistor_267R; PN: 541-267CCT-ND; URL: http://www.digikey.ca/product-detail/en/CRCW0805267RFKEA/541-267CCT-ND
footprint RESC2112X05M (Chip Resistor, 2-Leads, Body 2.05x1.25mm, IPC Low Density)
pins: 1, 2

## Resistor_274K
designator R?, comment Res3  value 274K
RES SMD 274K OHM 1% 1/8W 0805; MPN: CRCW0805274KFKEA; Name: Resistor_274K; PN: 541-2740KCCT-ND; URL: http://www.digikey.ca/product-detail/en/CRCW0805274KFKEA/541-2740KCCT-ND
footprint RESC2112X05M (Chip Resistor, 2-Leads, Body 2.05x1.25mm, IPC Low Density)
pins: 1, 2

## Resistor_274R
designator R?, comment Res3  value 274R
RES SMD 274R OHM 1% 1/8W 0805; MPN: CRCW0805274RFKEA; Name: Resistor_274R; PN: 541-274CCT-ND; URL: http://www.digikey.ca/product-detail/en/CRCW0805274RFKEA/541-274CCT-ND
footprint RESC2112X05M (Chip Resistor, 2-Leads, Body 2.05x1.25mm, IPC Low Density)
pins: 1, 2

## Resistor_280K
designator R?, comment Res3  value 280K
RES SMD 280K OHM 1% 1/8W 0805; MPN: CRCW0805280KFKEA; Name: Resistor_280K; PN: 541-2800KCCT-ND; URL: http://www.digikey.ca/product-detail/en/CRCW0805280KFKEA/541-2800KCCT-ND
footprint RESC2112X05M (Chip Resistor, 2-Leads, Body 2.05x1.25mm, IPC Low Density)
pins: 1, 2

## Resistor_280R
designator R?, comment Res3  value 280R
RES SMD 280R OHM 1% 1/8W 0805; MPN: CRCW0805280RFKEA; Name: Resistor_280R; PN: 541-280CCT-ND; URL: http://www.digikey.ca/product-detail/en/CRCW0805280RFKEA/541-280CCT-ND
footprint RESC2112X05M (Chip Resistor, 2-Leads, Body 2.05x1.25mm, IPC Low Density)
pins: 1, 2

## Resistor_287K
designator R?, comment Res3  value 287K
RES SMD 287K OHM 1% 1/8W 0805; MPN: CRCW0805287KFKEA; Name: Resistor_287K; PN: 541-2870KCCT-ND; URL: http://www.digikey.ca/product-detail/en/CRCW0805287KFKEA/541-2870KCCT-ND
footprint RESC2112X05M (Chip Resistor, 2-Leads, Body 2.05x1.25mm, IPC Low Density)
pins: 1, 2

## Resistor_287R
designator R?, comment Res3  value 287R
RES SMD 287R OHM 1% 1/8W 0805; MPN: CRCW0805287RFKEA; Name: Resistor_287R; PN: 541-287CCT-ND; URL: http://www.digikey.ca/product-detail/en/CRCW0805287RFKEA/541-287CCT-ND
footprint RESC2112X05M (Chip Resistor, 2-Leads, Body 2.05x1.25mm, IPC Low Density)
pins: 1, 2

## Resistor_294K
designator R?, comment Res3  value 294K
RES SMD 294K OHM 1% 1/8W 0805; MPN: CRCW0805294KFKEA; Name: Resistor_294K; PN: 541-2940KCCT-ND; URL: http://www.digikey.ca/product-detail/en/CRCW0805294KFKEA/541-2940KCCT-ND
footprint RESC2112X05M (Chip Resistor, 2-Leads, Body 2.05x1.25mm, IPC Low Density)
pins: 1, 2

## Resistor_294R
designator R?, comment Res3  value 294R
RES SMD 294R OHM 1% 1/8W 0805; MPN: CRCW0805294RFKEA; Name: Resistor_294R; PN: 541-294CCT-ND; URL: http://www.digikey.ca/product-detail/en/CRCW0805294RFKEA/541-294CCT-ND
footprint RESC2112X05M (Chip Resistor, 2-Leads, Body 2.05x1.25mm, IPC Low Density)
pins: 1, 2

## Resistor_301K
designator R?, comment Res3  value 301K
RES SMD 301K OHM 1% 1/8W 0805; MPN: CRCW0805301KFKEA; Name: Resistor_301K; PN: 541-3010KCCT-ND; URL: http://www.digikey.ca/product-detail/en/CRCW0805301KFKEA/541-3010KCCT-ND
footprint RESC2112X05M (Chip Resistor, 2-Leads, Body 2.05x1.25mm, IPC Low Density)
pins: 1, 2

## Resistor_301R
designator R?, comment Res3  value 301R
RES SMD 301R OHM 1% 1/8W 0805; MPN: CRCW0805301RFKEA; Name: Resistor_301R; PN: 541-301CCT-ND; URL: http://www.digikey.ca/product-detail/en/CRCW0805301RFKEA/541-301CCT-ND
footprint RESC2112X05M (Chip Resistor, 2-Leads, Body 2.05x1.25mm, IPC Low Density)
pins: 1, 2

## Resistor_309K
designator R?, comment Res3  value 309K
RES SMD 309K OHM 1% 1/8W 0805; MPN: CRCW0805309KFKEA; Name: Resistor_309K; PN: 541-3090KCCT-ND; URL: http://www.digikey.ca/product-detail/en/CRCW0805309KFKEA/541-3090KCCT-ND
footprint RESC2112X05M (Chip Resistor, 2-Leads, Body 2.05x1.25mm, IPC Low Density)
pins: 1, 2

## Resistor_309R
designator R?, comment Res3  value 309R
RES SMD 309R OHM 1% 1/8W 0805; MPN: CRCW0805309RFKEA; Name: Resistor_309R; PN: 541-309CCT-ND; URL: http://www.digikey.ca/product-detail/en/CRCW0805309RFKEA/541-309CCT-ND
footprint RESC2112X05M (Chip Resistor, 2-Leads, Body 2.05x1.25mm, IPC Low Density)
pins: 1, 2

## Resistor_316K
designator R?, comment Res3  value 316K
RES SMD 316K OHM 1% 1/8W 0805; MPN: CRCW0805316KFKEA; Name: Resistor_316K; PN: 541-3160KCCT-ND; URL: http://www.digikey.ca/product-detail/en/CRCW0805316KFKEA/541-3160KCCT-ND
footprint RESC2112X05M (Chip Resistor, 2-Leads, Body 2.05x1.25mm, IPC Low Density)
pins: 1, 2

## Resistor_316R
designator R?, comment Res3  value 316R
RES SMD 316R OHM 1% 1/8W 0805; MPN: CRCW0805316RFKEA; Name: Resistor_316R; PN: 541-316CCT-ND; URL: http://www.digikey.ca/product-detail/en/CRCW0805316RFKEA/541-316CCT-ND
footprint RESC2112X05M (Chip Resistor, 2-Leads, Body 2.05x1.25mm, IPC Low Density)
pins: 1, 2

## Resistor_324K
designator R?, comment Res3  value 324K
RES SMD 324K OHM 1% 1/8W 0805; MPN: CRCW0805324KFKEA; Name: Resistor_324K; PN: 541-3240KCCT-ND; URL: http://www.digikey.ca/product-detail/en/CRCW0805324KFKEA/541-3240KCCT-ND
footprint RESC2112X05M (Chip Resistor, 2-Leads, Body 2.05x1.25mm, IPC Low Density)
pins: 1, 2

## Resistor_324R
designator R?, comment Res3  value 324R
RES SMD 324R OHM 1% 1/8W 0805; MPN: CRCW0805324RFKEA; Name: Resistor_324R; PN: 541-324CCT-ND; URL: http://www.digikey.ca/product-detail/en/CRCW0805324RFKEA/541-324CCT-ND
footprint RESC2112X05M (Chip Resistor, 2-Leads, Body 2.05x1.25mm, IPC Low Density)
pins: 1, 2

## Resistor_332K
designator R?, comment Res3  value 332K
RES SMD 332K OHM 1% 1/8W 0805; MPN: CRCW0805332KFKEA; Name: Resistor_332K; PN: 541-3320KCCT-ND; URL: http://www.digikey.ca/product-detail/en/CRCW0805332KFKEA/541-3320KCCT-ND
footprint RESC2112X05M (Chip Resistor, 2-Leads, Body 2.05x1.25mm, IPC Low Density)
pins: 1, 2

## Resistor_332R
designator R?, comment Res3  value 332R
RES SMD 332R OHM 1% 1/8W 0805; MPN: CRCW0805332RFKEA; Name: Resistor_332R; PN: 541-332CCT-ND; URL: http://www.digikey.ca/product-detail/en/CRCW0805332RFKEA/541-332CCT-ND
footprint RESC2112X05M (Chip Resistor, 2-Leads, Body 2.05x1.25mm, IPC Low Density)
pins: 1, 2

## Resistor_340K
designator R?, comment Res3  value 340K
RES SMD 340K OHM 1% 1/8W 0805; MPN: CRCW0805340KFKEA; Name: Resistor_340K; PN: 541-3400KCCT-ND; URL: http://www.digikey.ca/product-detail/en/CRCW0805340KFKEA/541-3400KCCT-ND
footprint RESC2112X05M (Chip Resistor, 2-Leads, Body 2.05x1.25mm, IPC Low Density)
pins: 1, 2

## Resistor_340R
designator R?, comment Res3  value 340R
RES SMD 340R OHM 1% 1/8W 0805; MPN: CRCW0805340RFKEA; Name: Resistor_340R; PN: 541-340CCT-ND; URL: http://www.digikey.ca/product-detail/en/CRCW0805340RFKEA/541-340CCT-ND
footprint RESC2112X05M (Chip Resistor, 2-Leads, Body 2.05x1.25mm, IPC Low Density)
pins: 1, 2

## Resistor_348K
designator R?, comment Res3  value 348K
RES SMD 348K OHM 1% 1/8W 0805; MPN: CRCW0805348KFKEA; Name: Resistor_348K; PN: 541-3480KCCT-ND; URL: http://www.digikey.ca/product-detail/en/CRCW0805348KFKEA/541-3480KCCT-ND
footprint RESC2112X05M (Chip Resistor, 2-Leads, Body 2.05x1.25mm, IPC Low Density)
pins: 1, 2

## Resistor_348R
designator R?, comment Res3  value 348R
RES SMD 348R OHM 1% 1/8W 0805; MPN: CRCW0805348RFKEA; Name: Resistor_348R; PN: 541-348CCT-ND; URL: http://www.digikey.ca/product-detail/en/CRCW0805348RFKEA/541-348CCT-ND
footprint RESC2112X05M (Chip Resistor, 2-Leads, Body 2.05x1.25mm, IPC Low Density)
pins: 1, 2

## Resistor_357K
designator R?, comment Res3  value 357K
RES SMD 357K OHM 1% 1/8W 0805; MPN: CRCW0805357KFKEA; Name: Resistor_357K; PN: 541-3570KCCT-ND; URL: http://www.digikey.ca/product-detail/en/CRCW0805357KFKEA/541-3570KCCT-ND
footprint RESC2112X05M (Chip Resistor, 2-Leads, Body 2.05x1.25mm, IPC Low Density)
pins: 1, 2

## Resistor_357R
designator R?, comment Res3  value 357R
RES SMD 357R OHM 1% 1/8W 0805; MPN: CRCW0805357RFKEA; Name: Resistor_357R; PN: 541-357CCT-ND; URL: http://www.digikey.ca/product-detail/en/CRCW0805357RFKEA/541-357CCT-ND
footprint RESC2112X05M (Chip Resistor, 2-Leads, Body 2.05x1.25mm, IPC Low Density)
pins: 1, 2

## Resistor_365K
designator R?, comment Res3  value 365K
RES SMD 365K OHM 1% 1/8W 0805; MPN: CRCW0805365KFKEA; Name: Resistor_365K; PN: 541-3650KCCT-ND; URL: http://www.digikey.ca/product-detail/en/CRCW0805365KFKEA/541-3650KCCT-ND
footprint RESC2112X05M (Chip Resistor, 2-Leads, Body 2.05x1.25mm, IPC Low Density)
pins: 1, 2

## Resistor_365R
designator R?, comment Res3  value 365R
RES SMD 365R OHM 1% 1/8W 0805; MPN: CRCW0805365RFKEA; Name: Resistor_365R; PN: 541-365CCT-ND; URL: http://www.digikey.ca/product-detail/en/CRCW0805365RFKEA/541-365CCT-ND
footprint RESC2112X05M (Chip Resistor, 2-Leads, Body 2.05x1.25mm, IPC Low Density)
pins: 1, 2

## Resistor_374K
designator R?, comment Res3  value 374K
RES SMD 374K OHM 1% 1/8W 0805; MPN: CRCW0805374KFKEA; Name: Resistor_374K; PN: 541-3740KCCT-ND; URL: http://www.digikey.ca/product-detail/en/CRCW0805374KFKEA/541-3740KCCT-ND
footprint RESC2112X05M (Chip Resistor, 2-Leads, Body 2.05x1.25mm, IPC Low Density)
pins: 1, 2

## Resistor_374R
designator R?, comment Res3  value 374R
RES SMD 374R OHM 1% 1/8W 0805; MPN: CRCW0805374RFKEA; Name: Resistor_374R; PN: 541-374CCT-ND; URL: http://www.digikey.ca/product-detail/en/CRCW0805374RFKEA/541-374CCT-ND
footprint RESC2112X05M (Chip Resistor, 2-Leads, Body 2.05x1.25mm, IPC Low Density)
pins: 1, 2

## Resistor_383K
designator R?, comment Res3  value 383K
RES SMD 383K OHM 1% 1/8W 0805; MPN: CRCW0805383KFKEA; Name: Resistor_383K; PN: 541-3830KCCT-ND; URL: http://www.digikey.ca/product-detail/en/CRCW0805383KFKEA/541-3830KCCT-ND
footprint RESC2112X05M (Chip Resistor, 2-Leads, Body 2.05x1.25mm, IPC Low Density)
pins: 1, 2

## Resistor_383R
designator R?, comment Res3  value 383R
RES SMD 383R OHM 1% 1/8W 0805; MPN: CRCW0805383RFKEA; Name: Resistor_383R; PN: 541-383CCT-ND; URL: http://www.digikey.ca/product-detail/en/CRCW0805383RFKEA/541-383CCT-ND
footprint RESC2112X05M (Chip Resistor, 2-Leads, Body 2.05x1.25mm, IPC Low Density)
pins: 1, 2

## Resistor_392K
designator R?, comment Res3  value 392K
RES SMD 392K OHM 1% 1/8W 0805; MPN: CRCW0805392KFKEA; Name: Resistor_392K; PN: 541-3920KCCT-ND; URL: http://www.digikey.ca/product-detail/en/CRCW0805392KFKEA/541-3920KCCT-ND
footprint RESC2112X05M (Chip Resistor, 2-Leads, Body 2.05x1.25mm, IPC Low Density)
pins: 1, 2

## Resistor_392R
designator R?, comment Res3  value 392R
RES SMD 392R OHM 1% 1/8W 0805; MPN: CRCW0805392RFKEA; Name: Resistor_392R; PN: 541-392CCT-ND; URL: http://www.digikey.ca/product-detail/en/CRCW0805392RFKEA/541-392CCT-ND
footprint RESC2112X05M (Chip Resistor, 2-Leads, Body 2.05x1.25mm, IPC Low Density)
pins: 1, 2

## Resistor_402K
designator R?, comment Res3  value 402K
RES SMD 402K OHM 1% 1/8W 0805; MPN: CRCW0805402KFKEA; Name: Resistor_402K; PN: 541-4020KCCT-ND; URL: http://www.digikey.ca/product-detail/en/CRCW0805402KFKEA/541-4020KCCT-ND
footprint RESC2112X05M (Chip Resistor, 2-Leads, Body 2.05x1.25mm, IPC Low Density)
pins: 1, 2

## Resistor_402R
designator R?, comment Res3  value 402R
RES SMD 402R OHM 1% 1/8W 0805; MPN: CRCW0805402RFKEA; Name: Resistor_402R; PN: 541-402CCT-ND; URL: http://www.digikey.ca/product-detail/en/CRCW0805402RFKEA/541-402CCT-ND
footprint RESC2112X05M (Chip Resistor, 2-Leads, Body 2.05x1.25mm, IPC Low Density)
pins: 1, 2

## Resistor_412K
designator R?, comment Res3  value 412K
RES SMD 412K OHM 1% 1/8W 0805; MPN: CRCW0805412KFKEA; Name: Resistor_412K; PN: 541-4120KCCT-ND; URL: http://www.digikey.ca/product-detail/en/CRCW0805412KFKEA/541-4120KCCT-ND
footprint RESC2112X05M (Chip Resistor, 2-Leads, Body 2.05x1.25mm, IPC Low Density)
pins: 1, 2

## Resistor_412R
designator R?, comment Res3  value 412R
RES SMD 412R OHM 1% 1/8W 0805; MPN: CRCW0805412RFKEA; Name: Resistor_412R; PN: 541-412CCT-ND; URL: http://www.digikey.ca/product-detail/en/CRCW0805412RFKEA/541-412CCT-ND
footprint RESC2112X05M (Chip Resistor, 2-Leads, Body 2.05x1.25mm, IPC Low Density)
pins: 1, 2

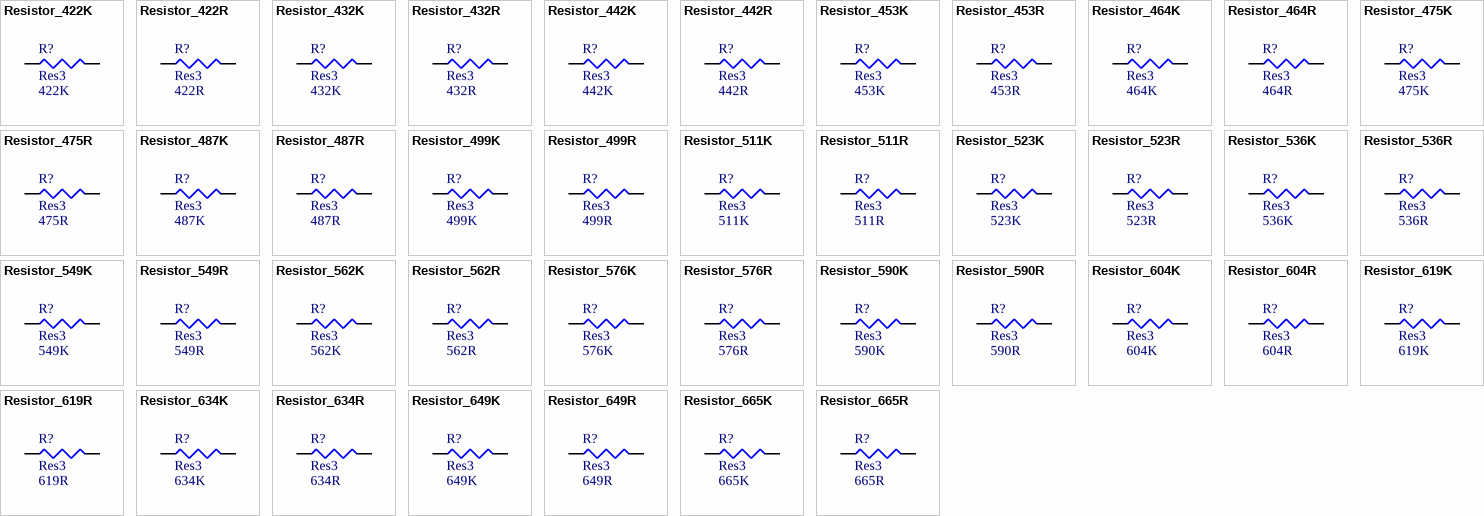
[diagram p15: symbols Resistor_422K to Resistor_665R]

## Resistor_422K
designator R?, comment Res3  value 422K
RES SMD 422K OHM 1% 1/8W 0805; MPN: CRCW0805422KFKEA; Name: Resistor_422K; PN: 541-4220KCCT-ND; URL: http://www.digikey.ca/product-detail/en/CRCW0805422KFKEA/541-4220KCCT-ND
footprint RESC2112X05M (Chip Resistor, 2-Leads, Body 2.05x1.25mm, IPC Low Density)
pins: 1, 2

## Resistor_422R
designator R?, comment Res3  value 422R
RES SMD 422R OHM 1% 1/8W 0805; MPN: CRCW0805422RFKEA; Name: Resistor_422R; PN: 541-422CCT-ND; URL: http://www.digikey.ca/product-detail/en/CRCW0805422RFKEA/541-422CCT-ND
footprint RESC2112X05M (Chip Resistor, 2-Leads, Body 2.05x1.25mm, IPC Low Density)
pins: 1, 2

## Resistor_432K
designator R?, comment Res3  value 432K
RES SMD 432K OHM 1% 1/8W 0805; MPN: CRCW0805432KFKEA; Name: Resistor_432K; PN: 541-4320KCCT-ND; URL: http://www.digikey.ca/product-detail/en/CRCW0805432KFKEA/541-4320KCCT-ND
footprint RESC2112X05M (Chip Resistor, 2-Leads, Body 2.05x1.25mm, IPC Low Density)
pins: 1, 2

## Resistor_432R
designator R?, comment Res3  value 432R
RES SMD 432R OHM 1% 1/8W 0805; MPN: CRCW0805432RFKEA; Name: Resistor_432R; PN: 541-432CCT-ND; URL: http://www.digikey.ca/product-detail/en/CRCW0805432RFKEA/541-432CCT-ND
footprint RESC2112X05M (Chip Resistor, 2-Leads, Body 2.05x1.25mm, IPC Low Density)
pins: 1, 2